# Altium schematic symbol library n-mosfet.SchLib: 1 symbol
Pins are listed as number, name and electrical type; pins without a type are passive.

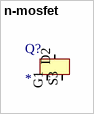
[diagram p0: symbol n-mosfet]

## n-mosfet
designator Q?
pins: D2 D (power), G1 Gate (power), S3 Source (power)